# Altium schematic symbol library Antenna_2.SchLib: 1 symbol
Pins are listed as number, name and electrical type; pins without a type are passive.

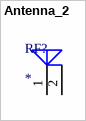
[diagram p0: symbol Antenna_2]

## Antenna_2
designator RF?
pins: 1, 2